# Altium schematic symbol library Misc.SchLib: 3 symbols
Pins are listed as number, name and electrical type; pins without a type are passive.

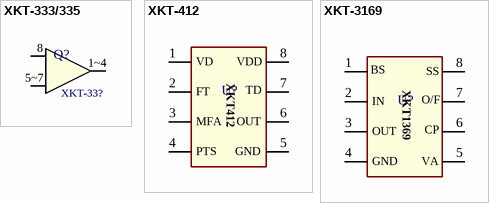
[diagram p0: symbols XKT-333/335 to XKT-3169]

## XKT-333/335
designator Q?, comment XKT-33?
XKT-333 335 是芯科泰最新开发的廉价优质 高频大功率输出集成电路，配合 XKT-412 芯 片工作体积小输出功率 强大，可工作较高的工作频率下在较高频率 范围内使用可大大减少发送线圈的体积和尺 寸增强发射功率，降低线圈成本，由于对线 圈电感量要求小也可直接采用 PCB 作为发射 使生产应用更加简便；芯片采用最先进的宽 电压自适应技术芯片设计工艺，同样的发射 电路可以在任意工作范围内电压使用而不改 变任何器件使用极为方便，电路极为简单， 具有精度高稳定性好等特点，其专门用于无 线感应智能充电、供电管理系统中，可靠性 能高。XKT-412 负责处理该系统中的无线电 能传输功能，采用电磁能量转换原理并配合 接收部分做能量转换及电路的实时监控；负 责各项电池的快速充电智能控制，XKT-412 只需配合极少的外部元件就可以做成高可靠 的无线快速充电器、无线电源供电。; Name: XKT-33?
footprint SOP8_L (SOIC, 8-Leads, Body 4.9x3.9mm, Pitch 1.27mm, IPC High Density)
footprint SOP8_M (SOIC, 8-Leads, Body 4.9x3.9mm, Pitch 1.27mm, IPC Low Density)
footprint SOP8_N (SOIC, 8-Leads, Body 4.9x3.9mm, Pitch 1.27mm, IPC Medium Density)
pins: 1 OUT, 2 OUT, 3 OUT, 4 OUT, 5 GND, 6 GND, 7 GND, 8 IN
text: 1~4; 5~7

## XKT-412
designator U?  (value not drawn)
XKT-412 是芯科泰最新开发的高频大功率 集成电路，体积小输出功率强大，可工作 在较高频率范围内使用可大大减少发送线 圈的体积和尺寸增强发射功率，降低线圈 成本，由于对线圈电感量要求小也可直接 采用 PCB 作为发射使生产应用更加简便； 芯片采用最先进的宽电压自适应技术芯片 设计工艺，同样的发射电路可以在任意工 作范围内电压使用而不改变任何器件使用 极为方便，电路极为简单，具有精度高稳 定性好等特点，其专门用于无线感应智能 充电、供电管理系统中，可靠性能高。XK T-412 负责处理该系统中的无线电能传输功 能，采用电磁能量转换原理并配合接收部分 做能量转换及电路的实时监控；负责各项电 池的快速充电智能控制，XKT-412 只需配合 极少的外部元件就可以做成高可靠的无线快 速充电器、无线电源供电。
footprint SOP8_L (SOIC, 8-Leads, Body 4.9x3.9mm, Pitch 1.27mm, IPC High Density)
footprint SOP8_M (SOIC, 8-Leads, Body 4.9x3.9mm, Pitch 1.27mm, IPC Low Density)
footprint SOP8_N (SOIC, 8-Leads, Body 4.9x3.9mm, Pitch 1.27mm, IPC Medium Density)
pins: 1 VD "电压检测", 2 FT "频率微调", 3 MFA "多功能调节", 4 PTS "功率加强", 5 GND "地", 6 OUT "输出", 7 TD "功率驱动", 8 VDD "电源正极"
text: XKT412

## XKT-3169
designator U?  (value not drawn)
XKT-3169 是芯科泰无线充电系列通用接收集成电路，体积小输出功率大，可配合各种无线充电方案应用，电路简单使用方便
footprint SOP8_M (SOIC, 8-Leads, Body 4.9x3.9mm, Pitch 1.27mm, IPC Low Density)
footprint SOP8_L (SOIC, 8-Leads, Body 4.9x3.9mm, Pitch 1.27mm, IPC High Density)
footprint SOP8_N (SOIC, 8-Leads, Body 4.9x3.9mm, Pitch 1.27mm, IPC Medium Density)
pins: 1 BS "反馈", 2 IN "输入", 3 OUT "输出", 4 GND "地", 5 VA "输出电压调节取样", 6 CP "去谐波", 7 O/F "输出控制使能端", 8 SS "滤波"
text: XKT1369